# Altium integrated library MPX5010DP.IntLib: 1 symbol
Pins are listed as number, name and electrical type; pins without a type are passive.

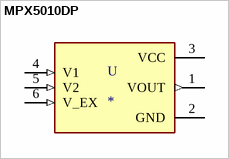
[diagram p0: symbol MPX5010DP]

## MPX5010DP
designator U
Pressure Sensor 1.45PSI _10kPa_ Differential Male - 0.19 _4.93mm_ Tube 0.2 V ~ 4.7 V 6-SIP Module; MF: NXP USA; MP: MPX5010DP; Price: None; Package: SIP-6 NXP Semiconductors; Value: *; SnapEDA_Link: https://www.snapeda.com/parts/MPX5010DP/NXP%20USA%20Inc./view-part/597709/?ref=snap; Availability: Unavailable
footprint XDCR_MPX5010DP
pins: 1 VOUT (out), 2 GND (power), 3 VCC (power), 4 V1 (in), 5 V2 (in), 6 V_EX (in)